# Altium schematic symbol library WE-CBF_1812.SchLib: 7 symbols
Pins are listed as number, name and electrical type; pins without a type are passive.

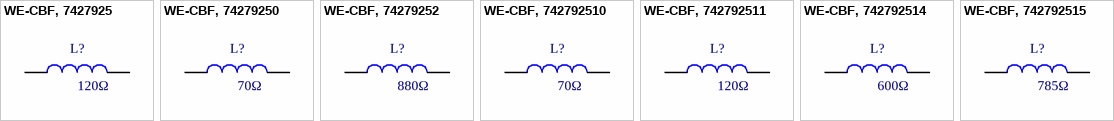
[diagram p0: symbols WE-CBF, 7427925 to WE-CBF, 742792515]

## WE-CBF, 7427925
designator L?, comment 120Ω
WE-CBF SMD EMI Suppression Ferrite Bead, 1812, 120Ω; PartNumber: 7427925; Type: High Speed; PublishedDate: Aug 2016; Publisher: Wurth Elektronik; ComponentLink1Description: Manufacturer; ComponentLink1URL: http://www.we-online.de; ComponentLink2Description: Datasheet; ComponentLink2URL: http://katalog.we-online.de/pbs/datasheet/7427925.pdf; Value: 120Ω; Size: 1812
footprint WE-CBF_1812_High Speed
pins: 1, 2

## WE-CBF, 74279250
designator L?, comment 70Ω
WE-CBF SMD EMI Suppression Ferrite Bead, 1812, 70Ω; PartNumber: 74279250; Type: Wide Band; PublishedDate: Aug 2016; Publisher: Wurth Elektronik; ComponentLink1Description: Manufacturer; ComponentLink1URL: http://www.we-online.de; ComponentLink2Description: Datasheet; ComponentLink2URL: http://katalog.we-online.de/pbs/datasheet/74279250.pdf; Value: 70Ω; Size: 1812
footprint WE-CBF_1812_Wide Band
pins: 1, 2

## WE-CBF, 74279252
designator L?, comment 880Ω
WE-CBF SMD EMI Suppression Ferrite Bead, 1812, 880Ω; PartNumber: 74279252; Type: High Current; PublishedDate: Aug 2016; Publisher: Wurth Elektronik; ComponentLink1Description: Manufacturer; ComponentLink1URL: http://www.we-online.de; ComponentLink2Description: Datasheet; ComponentLink2URL: http://katalog.we-online.de/pbs/datasheet/74279252.pdf; Value: 880Ω; Size: 1812
footprint WE-CBF_1812_High Current
pins: 1, 2

## WE-CBF, 742792510
designator L?, comment 70Ω
WE-CBF SMD EMI Suppression Ferrite Bead, 1812, 70Ω; PartNumber: 742792510; Type: High Current; PublishedDate: Aug 2016; Publisher: Wurth Elektronik; ComponentLink1Description: Manufacturer; ComponentLink1URL: http://www.we-online.de; ComponentLink2Description: Datasheet; ComponentLink2URL: http://katalog.we-online.de/pbs/datasheet/742792510.pdf; Value: 70Ω; Size: 1812
footprint WE-CBF_1812_High Current
pins: 1, 2

## WE-CBF, 742792511
designator L?, comment 120Ω
WE-CBF SMD EMI Suppression Ferrite Bead, 1812, 120Ω; PartNumber: 742792511; Type: High Current; PublishedDate: Aug 2016; Publisher: Wurth Elektronik; ComponentLink1Description: Manufacturer; ComponentLink1URL: http://www.we-online.de; ComponentLink2Description: Datasheet; ComponentLink2URL: http://katalog.we-online.de/pbs/datasheet/742792511.pdf; Value: 120Ω; Size: 1812
footprint WE-CBF_1812_High Current
pins: 1, 2

## WE-CBF, 742792514
designator L?, comment 600Ω
WE-CBF SMD EMI Suppression Ferrite Bead, 1812, 600Ω; PartNumber: 742792514; Type: High Current; PublishedDate: Aug 2016; Publisher: Wurth Elektronik; ComponentLink1Description: Manufacturer; ComponentLink1URL: http://www.we-online.de; ComponentLink2Description: Datasheet; ComponentLink2URL: http://katalog.we-online.de/pbs/datasheet/742792514.pdf; Value: 600Ω; Size: 1812
footprint WE-CBF_1812_High Current
pins: 1, 2

## WE-CBF, 742792515
designator L?, comment 785Ω
WE-CBF SMD EMI Suppression Ferrite Bead, 1812, 785Ω; PartNumber: 742792515; Type: High Current; PublishedDate: Aug 2016; Publisher: Wurth Elektronik; ComponentLink1Description: Manufacturer; ComponentLink1URL: http://www.we-online.de; ComponentLink2Description: Datasheet; ComponentLink2URL: http://katalog.we-online.de/pbs/datasheet/742792515.pdf; Value: 785Ω; Size: 1812
footprint WE-CBF_1812_High Current
pins: 1, 2